# Altium schematic symbol library 691 323 300 0xx.SchLib: 6 symbols
Pins are listed as number, name and electrical type; pins without a type are passive.

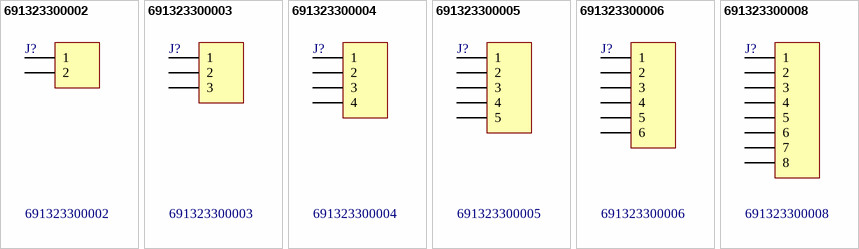
[diagram p0: symbols 691323300002 to 691323300008]

## 691323300002
designator J?
WR-TBL Terminal block - serie 3233 - 3.81 mm; Manufacturer: Würth Elektronik eiSos GmbH; ComponentLink1 Description: Manufacturer; ComponentLink2 Description: Datasheet; NoPins: 2; Created Date: 13 December 2013; partNo: 691323300002; ComponentLink1URL: http://www.we-online.com; ComponentLink2URL: http://katalog.we-online.de/em/datasheet/6913233000xx.pdf; Created by: Karrer Zheng
footprint 691323300002
pins: 1, 2

## 691323300003
designator J?
WR-TBL Terminal block - serie 3233 - 3.81 mm; Manufacturer: Würth Elektronik eiSos GmbH; ComponentLink1 Description: Manufacturer; ComponentLink2 Description: Datasheet; NoPins: 3; Created Date: 13 December 2013; partNo: 691323300003; ComponentLink1URL: http://www.we-online.com; ComponentLink2URL: http://katalog.we-online.de/em/datasheet/6913233000xx.pdf; Created by: Karrer Zheng
footprint 691323300003
pins: 1, 2, 3

## 691323300004
designator J?
WR-TBL Terminal block - serie 3233 - 3.81 mm; Manufacturer: Würth Elektronik eiSos GmbH; ComponentLink1 Description: Manufacturer; ComponentLink2 Description: Datasheet; NoPins: 4; Created Date: 13 December 2013; partNo: 691323300004; ComponentLink1URL: http://www.we-online.com; ComponentLink2URL: http://katalog.we-online.de/em/datasheet/6913233000xx.pdf; Created by: Karrer Zheng
footprint 691323300004
pins: 1, 2, 3, 4

## 691323300005
designator J?
WR-TBL Terminal block - serie 3233 - 3.81 mm; Manufacturer: Würth Elektronik eiSos GmbH; ComponentLink1 Description: Manufacturer; ComponentLink2 Description: Datasheet; NoPins: 5; Created Date: 13 December 2013; partNo: 691323300005; ComponentLink1URL: http://www.we-online.com; ComponentLink2URL: http://katalog.we-online.de/em/datasheet/6913233000xx.pdf; Created by: Karrer Zheng
footprint 691323300005
pins: 1, 2, 3, 4, 5

## 691323300006
designator J?
WR-TBL Terminal block - serie 3233 - 3.81 mm; Manufacturer: Würth Elektronik eiSos GmbH; ComponentLink1 Description: Manufacturer; ComponentLink2 Description: Datasheet; NoPins: 6; Created Date: 13 December 2013; partNo: 691323300006; ComponentLink1URL: http://www.we-online.com; ComponentLink2URL: http://katalog.we-online.de/em/datasheet/6913233000xx.pdf; Created by: Karrer Zheng
footprint 691323300006
pins: 1, 2, 3, 4, 5, 6

## 691323300008
designator J?
WR-TBL Terminal block - serie 3233 - 3.81 mm; Manufacturer: Würth Elektronik eiSos GmbH; ComponentLink1 Description: Manufacturer; ComponentLink2 Description: Datasheet; NoPins: 8; Created Date: 13 December 2013; partNo: 691323300008; ComponentLink1URL: http://www.we-online.com; ComponentLink2URL: http://katalog.we-online.de/em/datasheet/6913233000xx.pdf; Created by: Karrer Zheng
footprint 691323300008
pins: 1, 2, 3, 4, 5, 6, 7, 8